# Altium schematic symbol library SCH - CONNECTORS - WE 649012227222.Schlib: 1 symbol
Pins are listed as number, name and electrical type; pins without a type are passive.

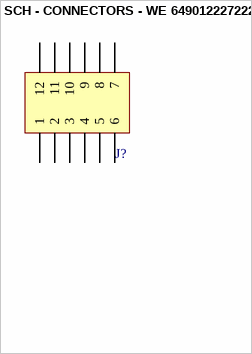
[diagram p0: symbol SCH - CONNECTORS - WE 649012227222]

## SCH - CONNECTORS - WE 649012227222
designator J?
ComponentLink1 Description: Manufacturer; ComponentLink2 Description: Datasheet; ComponentLink1URL: http://www.we-online.com; ComponentLink2URL: http://katalog.we-online.de/em/datasheet/6490xx227222.pdf
footprint 649012227222 (Dual row Right angle header With plastic peg 12p)
pins: 1, 2, 3, 4, 5, 6, 7, 8, 9, 10, 11, 12